# EAGLE library part ATMEGA*U2 (library IC_Embedded)
8-bit Microcontroller Datasheet <https://ww1.microchip.com/downloads/en/DeviceDoc/doc7799.pdf> Note:For this part User needs to add thermal via in thermal pad in QFN package while designing a board.
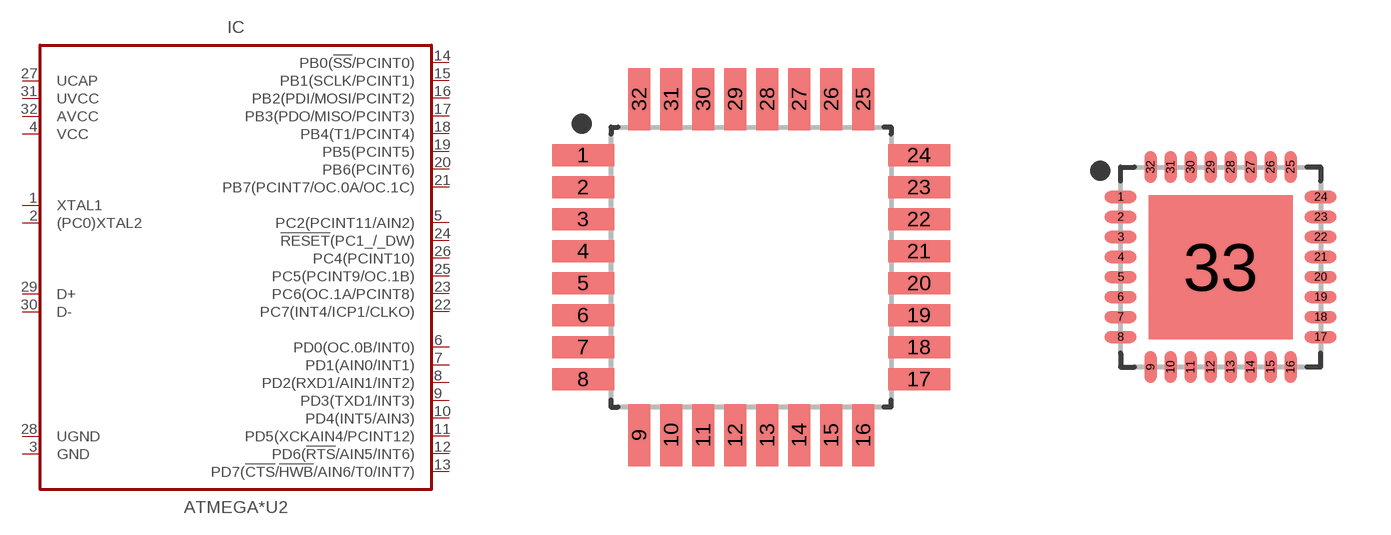
[diagram p31: symbol with the pads of QFP80P900X900X120-32; footprints QFP80P900X900X120-32, QFN50P500X500X100-33T360]

Designator prefix IC

## ATMEGA16U2-AU (CATEGORY: IC_Embedded; CORE: AVR; DESCRIPTION: IC MCU 8BIT 16KB FLASH 32TQFP; MANUFACTURER: Microchip Technology; MPN: ATMEGA16U2-AU; OPERATING_TEMP: -40°C to +85°C; PART_STATUS: Active; ROHS_COMPLIANT: COMPLIANT; SUB-CATEGORY: Microcontroller; TYPE: 8 bit Microcontroller; VALUE: ATMEGA16), ATMEGA32U2-AU (CATEGORY: IC_Embedded; CORE: AVR; DESCRIPTION: IC MCU 8BIT 32KB FLASH 32TQFP; MANUFACTURER: Microchip Technology; MPN: ATMEGA32U2-AU; OPERATING_TEMP: -40°C to +85°C; PART_STATUS: Active; ROHS_COMPLIANT: COMPLIANT; SUB-CATEGORY: Microcontroller; TYPE: 8 bit Microcontroller; VALUE: ATMEGA32), ATMEGA8U2-AU (CATEGORY: IC_Embedded; CORE: AVR; DESCRIPTION: IC MCU 8BIT 8KB FLASH 32TQFP; MANUFACTURER: Microchip Technology; MPN: ATMEGA8U2-AU; OPERATING_TEMP: -40°C to +85°C; PART_STATUS: Active; ROHS_COMPLIANT: COMPLIANT; SUB-CATEGORY: Microcontroller; TYPE: 8 bit Microcontroller; VALUE: ATMEGA8)  [QFP80P900X900X120-32]
1  XTAL1  in
2  (PC0)XTAL2  out
3  GND  pwr
4  VCC  pwr
5  PC2(PCINT11/AIN2)
6  PD0(OC.0B/INT0)
7  PD1(AIN0/INT1)
8  PD2(RXD1/AIN1/INT2)
9  PD3(TXD1/INT3)
10  PD4(INT5/AIN3)
11  PD5(XCKAIN4/PCINT12)
12  PD6(!RTS!/AIN5/INT6)
13  PD7(!CTS!/!HWB!/AIN6/T0/INT7)
14  PB0(!SS!/PCINT0)
15  PB1(SCLK/PCINT1)
16  PB2(PDI/MOSI/PCINT2)
17  PB3(PDO/MISO/PCINT3)
18  PB4(T1/PCINT4)
19  PB5(PCINT5)
20  PB6(PCINT6)
21  PB7(PCINT7/OC.0A/OC.1C)
22  PC7(INT4/ICP1/CLKO)
23  PC6(OC.1A/PCINT8)
24  !RESET!(PC1_/_DW)  in
25  PC5(PCINT9/OC.1B)
26  PC4(PCINT10)
27  UCAP  pwr
28  UGND  pwr
29  D+
30  D-
31  UVCC  pwr
32  AVCC  pwr

## ATMEGA16U2-MU (CATEGORY: IC_Embedded; CORE: AVR; DESCRIPTION: IC MCU 8BIT 16KB FLASH 32TQFP; MANUFACTURER: Microchip Technology; MPN: ATmega16U2-AU; OPERATING_TEMP: -40°C to +85°C; PART_STATUS: Active; ROHS_COMPLIANT: COMPLIANT; SUB-CATEGORY: Microcontroller; TYPE: 8 bit Microcontroller; VALUE: ATMEGA16U2-MU), ATMEGA32U2-MU (CATEGORY: IC_Embedded; CORE: AVR; DESCRIPTION: IC MCU 8BIT 32KB FLASH 32TQFP; MANUFACTURER: Microchip Technology; MPN: ATmega32U2-AU; OPERATING_TEMP: -40°C to +85°C; PART_STATUS: Active; ROHS_COMPLIANT: COMPLIANT; SUB-CATEGORY: Microcontroller; TYPE: 8 bit Microcontroller; VALUE: ATMEGA32U2-MU), ATMEGA8U2-MU (CATEGORY: IC_Embedded; CORE: AVR; DESCRIPTION: IC MCU 8BIT 8KB FLASH 32TQFP; MANUFACTURER: Microchip Technology; MPN: ATmega8U2-AU; OPERATING_TEMP: -40°C to +85°C; PART_STATUS: Active; ROHS_COMPLIANT: COMPLIANT; SUB-CATEGORY: Microcontroller; TYPE: 8 bit Microcontroller; VALUE: ATMEGA8U2-MU)  [QFN50P500X500X100-33T360]
1  XTAL1  in
2  (PC0)XTAL2  out
3  GND  pwr
4  VCC  pwr
5  PC2(PCINT11/AIN2)
6  PD0(OC.0B/INT0)
7  PD1(AIN0/INT1)
8  PD2(RXD1/AIN1/INT2)
9  PD3(TXD1/INT3)
10  PD4(INT5/AIN3)
11  PD5(XCKAIN4/PCINT12)
12  PD6(!RTS!/AIN5/INT6)
13  PD7(!CTS!/!HWB!/AIN6/T0/INT7)
14  PB0(!SS!/PCINT0)
15  PB1(SCLK/PCINT1)
16  PB2(PDI/MOSI/PCINT2)
17  PB3(PDO/MISO/PCINT3)
18  PB4(T1/PCINT4)
19  PB5(PCINT5)
20  PB6(PCINT6)
21  PB7(PCINT7/OC.0A/OC.1C)
22  PC7(INT4/ICP1/CLKO)
23  PC6(OC.1A/PCINT8)
24  !RESET!(PC1_/_DW)  in
25  PC5(PCINT9/OC.1B)
26  PC4(PCINT10)
27  UCAP  pwr
28  UGND  pwr
29  D+
30  D-
31  UVCC  pwr
32  AVCC  pwr
33  GND  pwr

## Footprint QFP80P900X900X120-32 (pad centres in mm)
32-QFP, 0.80 mm pitch, 9.00 mm span, 7.00 X 7.00 X 1.20 mm body 32-pin QFP package with 0.80 mm pitch, 9.00 mm lead span1 X 9.00 mm lead span2 with body size 7.00 X 7.00 X 1.20 mm
smd 1.55 x 0.55: 1 -4.2,2.8; 2 -4.2,2; 3 -4.2,1.2; 4 -4.2,0.4; 5 -4.2,-0.4; 6 -4.2,-1.2; 7 -4.2,-2; 8 -4.2,-2.8; 17 4.2,-2.8; 18 4.2,-2; 19 4.2,-1.2; 20 4.2,-0.4; 21 4.2,0.4; 22 4.2,1.2; 23 4.2,2; 24 4.2,2.8
smd 0.55 x 1.55: 9 -2.8,-4.2; 10 -2,-4.2; 11 -1.2,-4.2; 12 -0.4,-4.2; 13 0.4,-4.2; 14 1.2,-4.2; 15 2,-4.2; 16 2.8,-4.2; 25 2.8,4.2; 26 2,4.2; 27 1.2,4.2; 28 0.4,4.2; 29 -0.4,4.2; 30 -1.2,4.2; 31 -2,4.2; 32 -2.8,4.2

## Footprint QFN50P500X500X100-33T360 (pad centres in mm)
32-QFN, 0.50 mm pitch, 5.00 X 5.00 X 1.00 mm body, 3.60 X 3.60 mm thermal pad 32-pin QFN package with 0.50 mm pitch with body size 5.00 X 5.00 X 1.00 mm and thermal pad size 3.60 X 3.60 mm
smd 0.8 x 0.3: 1 -2.5,1.75; 2 -2.5,1.25; 3 -2.5,0.75; 4 -2.5,0.25; 5 -2.5,-0.25; 6 -2.5,-0.75; 7 -2.5,-1.25; 8 -2.5,-1.75; 17 2.5,-1.75; 18 2.5,-1.25; 19 2.5,-0.75; 20 2.5,-0.25; 21 2.5,0.25; 22 2.5,0.75; 23 2.5,1.25; 24 2.5,1.75
smd 0.3 x 0.8: 9 -1.75,-2.5; 10 -1.25,-2.5; 11 -0.75,-2.5; 12 -0.25,-2.5; 13 0.25,-2.5; 14 0.75,-2.5; 15 1.25,-2.5; 16 1.75,-2.5; 25 1.75,2.5; 26 1.25,2.5; 27 0.75,2.5; 28 0.25,2.5; 29 -0.25,2.5; 30 -0.75,2.5; 31 -1.25,2.5; 32 -1.75,2.5
smd 3.6 x 3.6: 33 0,0